# Altium schematic symbol library MSP430FR2155TDBT.SchLib: 1 symbol
Pins are listed as number, name and electrical type; pins without a type are passive.

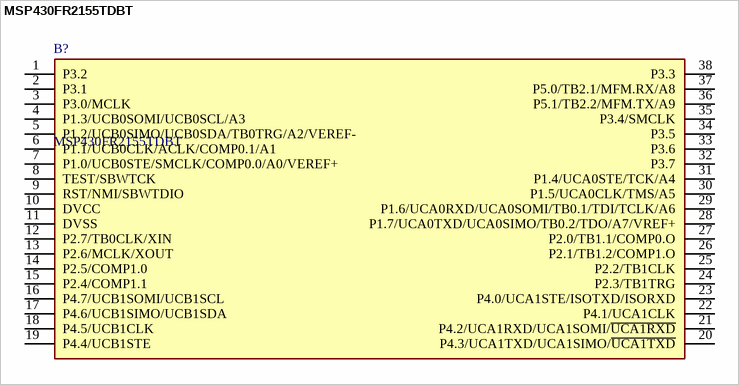
[diagram p0: symbol MSP430FR2155TDBT]

## MSP430FR2155TDBT
designator B?
16-bit Microcontrollers - MCU; Manufacturer_Name: Texas Instruments; Geometry.Height: 1.2mm; Mouser Part Number: 595-MSP430FR2155TDBT; Mouser Price/Stock: https://www.mouser.co.uk/ProductDetail/Texas-Instruments/MSP430FR2155TDBT?qs=gTYE2QTfZfQnN3NMB8GQDw%3D%3D; Manufacturer_Part_Number: MSP430FR2155TDBT; Datasheet Link: *
footprint SOP50P640X120-38N
pins: 1 P3.2, 2 P3.1, 3 P3.0/MCLK, 4 P1.3/UCB0SOMI/UCB0SCL/A3, 5 P1.2/UCB0SIMO/UCB0SDA/TB0TRG/A2/VEREF-, 6 P1.1/UCB0CLK/ACLK/COMP0.1/A1, 7 P1.0/UCB0STE/SMCLK/COMP0.0/A0/VEREF+, 8 TEST/SBWTCK, 9 RST/NMI/SBWTDIO, 10 DVCC, 11 DVSS, 12 P2.7/TB0CLK/XIN, 13 P2.6/MCLK/XOUT, 14 P2.5/COMP1.0, 15 P2.4/COMP1.1, 16 P4.7/UCB1SOMI/UCB1SCL, 17 P4.6/UCB1SIMO/UCB1SDA, 18 P4.5/UCB1CLK, 19 P4.4/UCB1STE, 20 P4.3/UCA1TXD/UCA1SIMO/~{UCA1TXD}, 21 P4.2/UCA1RXD/UCA1SOMI/~{UCA1RXD}, 22 P4.1/UCA1CLK, 23 P4.0/UCA1STE/ISOTXD/ISORXD, 24 P2.3/TB1TRG, 25 P2.2/TB1CLK, 26 P2.1/TB1.2/COMP1.O, 27 P2.0/TB1.1/COMP0.O, 28 P1.7/UCA0TXD/UCA0SIMO/TB0.2/TDO/A7/VREF+, 29 P1.6/UCA0RXD/UCA0SOMI/TB0.1/TDI/TCLK/A6, 30 P1.5/UCA0CLK/TMS/A5, 31 P1.4/UCA0STE/TCK/A4, 32 P3.7, 33 P3.6, 34 P3.5, 35 P3.4/SMCLK, 36 P5.1/TB2.2/MFM.TX/A9, 37 P5.0/TB2.1/MFM.RX/A8, 38 P3.3